# Altium schematic symbol library arduino due.SchLib: 2 symbols
Pins are listed as number, name and electrical type; pins without a type are passive.

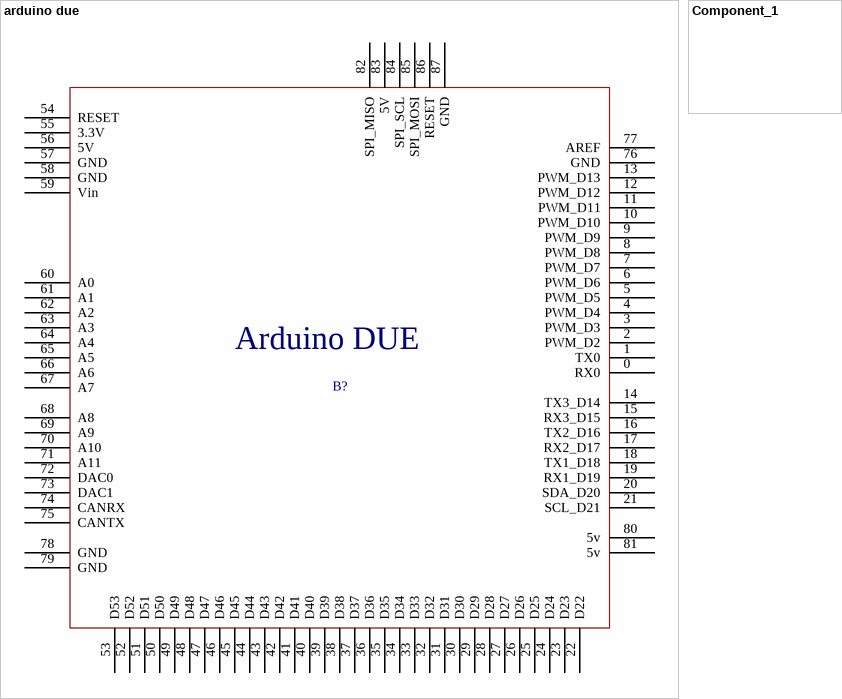
[diagram p0: symbols arduino due to Component_1]

## arduino due
designator B?, comment Arduino due  (value not drawn)
pins: 0 RX0, 1 TX0, 2 PWM_D2, 3 PWM_D3, 4 PWM_D4, 5 PWM_D5, 6 PWM_D6, 7 PWM_D7, 8 PWM_D8, 9 PWM_D9, 10 PWM_D10, 11 PWM_D11, 12 PWM_D12, 13 PWM_D13, 14 TX3_D14, 15 RX3_D15, 16 TX2_D16, 17 RX2_D17, 18 TX1_D18, 19 RX1_D19, 20 SDA_D20, 21 SCL_D21, 22 D22, 23 D23, 24 D24, 25 D25, 26 D26, 27 D27, 28 D28, 29 D29, 30 D30, 31 D31, 32 D32, 33 D33, 34 D34, 35 D35, 36 D36, 37 D37, 38 D38, 39 D39, 40 D40, 41 D41, 42 D42, 43 D43, 44 D44, 45 D45, 46 D46, 47 D47, 48 D48, 49 D49, 50 D50, 51 D51, 52 D52, 53 D53, 54 RESET, 55 3.3V, 56 5V, 57 GND, 58 GND, 59 Vin, 60 A0, 61 A1, 62 A2, 63 A3, 64 A4, 65 A5, 66 A6, 67 A7, 68 A8, 69 A9, 70 A10, 71 A11, 72 DAC0, 73 DAC1, 74 CANRX, 75 CANTX, 76 GND, 77 AREF, 78 GND, 79 GND, 80 5v, 81 5v, 82 SPI_MISO, 83 5V, 84 SPI_SCL, 85 SPI_MOSI, 86 RESET, 87 GND
text: Arduino DUE

## Component_1
designator *